# EAGLE library part ICM-20649 (library TrackerPeripherals)
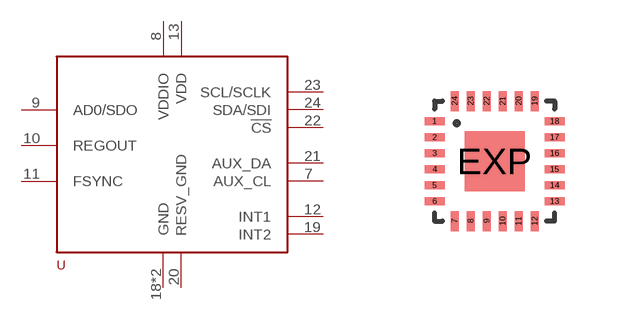
[diagram p6: symbol with the pads of QFN24-3X3; footprint QFN24-3X3]

Designator prefix -

## ICM-20649  [QFN24-3X3]
7  AUX_CL
8  VDDIO
9  AD0/SDO
10  REGOUT
11  FSYNC
12  INT1
13  VDD
18  GND
19  INT2
20  RESV_GND
21  AUX_DA
22  !CS
23  SCL/SCLK
24  SDA/SDI
EXP  GND

## Footprint QFN24-3X3 (pad centres in mm)
smd 0.5 x 0.2: 1 -1.5,1; 2 -1.5,0.6; 3 -1.5,0.2; 4 -1.5,-0.2; 5 -1.5,-0.6; 6 -1.5,-1; 13 1.5,-1; 14 1.5,-0.6; 15 1.5,-0.2; 16 1.5,0.2; 17 1.5,0.6; 18 1.5,1
smd 0.2 x 0.5: 7 -1,-1.5; 8 -0.6,-1.5; 9 -0.2,-1.5; 10 0.2,-1.5; 11 0.6,-1.5; 12 1,-1.5; 19 1,1.5; 20 0.6,1.5; 21 0.2,1.5; 22 -0.2,1.5; 23 -0.6,1.5; 24 -1,1.5
smd 1.5 x 1.5: EXP 0,0